# Altium schematic symbol library CUHS20S30,H3F.SchLib: 2 symbols
Pins are listed as number, name and electrical type; pins without a type are passive.

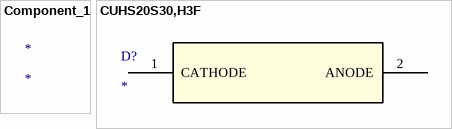
[diagram p0: symbols Component_1 to CUHS20S30,H3F]

## Component_1
designator *

## CUHS20S30,H3F
designator D?
No Description Available; Mfr_Name: Toshiba Electronic Devices & Storage Corp.; RefDes: RefDes; Type: Type
footprint US2H_TOS
pins: 1 CATHODE, 2 ANODE